# Altium integrated library CL-SB-12B-switch.IntLib: 1 symbol
Pins are listed as number, name and electrical type; pins without a type are passive.

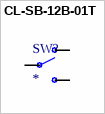
[diagram p0: symbol CL-SB-12B-01T]

## CL-SB-12B-01T
designator SW?
SPDT, ON-ON Slide, Top Actuator, 200mA @ 12V DC Gull Wing SMD Terminals, T&R 500 pc Packaging; MF: Nidec Copal; MP: CL-SB-12B-01T; Purchase-URL: https://pricing.snapeda.com/search/part/CL-SB-12B-01T/?ref=eda; Price: None; Check_prices: https://www.snapeda.com/parts/CL-SB-12B-01T/Nidec+Copal+Electronics/view-part/?ref=eda; Value: *; Package: None; SnapEDA_Link: https://www.snapeda.com/parts/CL-SB-12B-01T/Nidec+Copal+Electronics/view-part/?ref=snap; Availability: In Stock
footprint CL-SB-12B-01T
pins: 1, 3, C